# Altium footprint library PCB_control_unit.PcbLib: 48 footprints (part 2 of 3)
Each footprint in its own frame and in the unit in brackets; x right, y up, seen from the top. Pads: shape width x height; smd on the part's side, far side on the other; paste and mask are expansions set on the pad; w line width, h text height; cw(c..) or ccw(c..) is an arc to the next point about the centre after c.
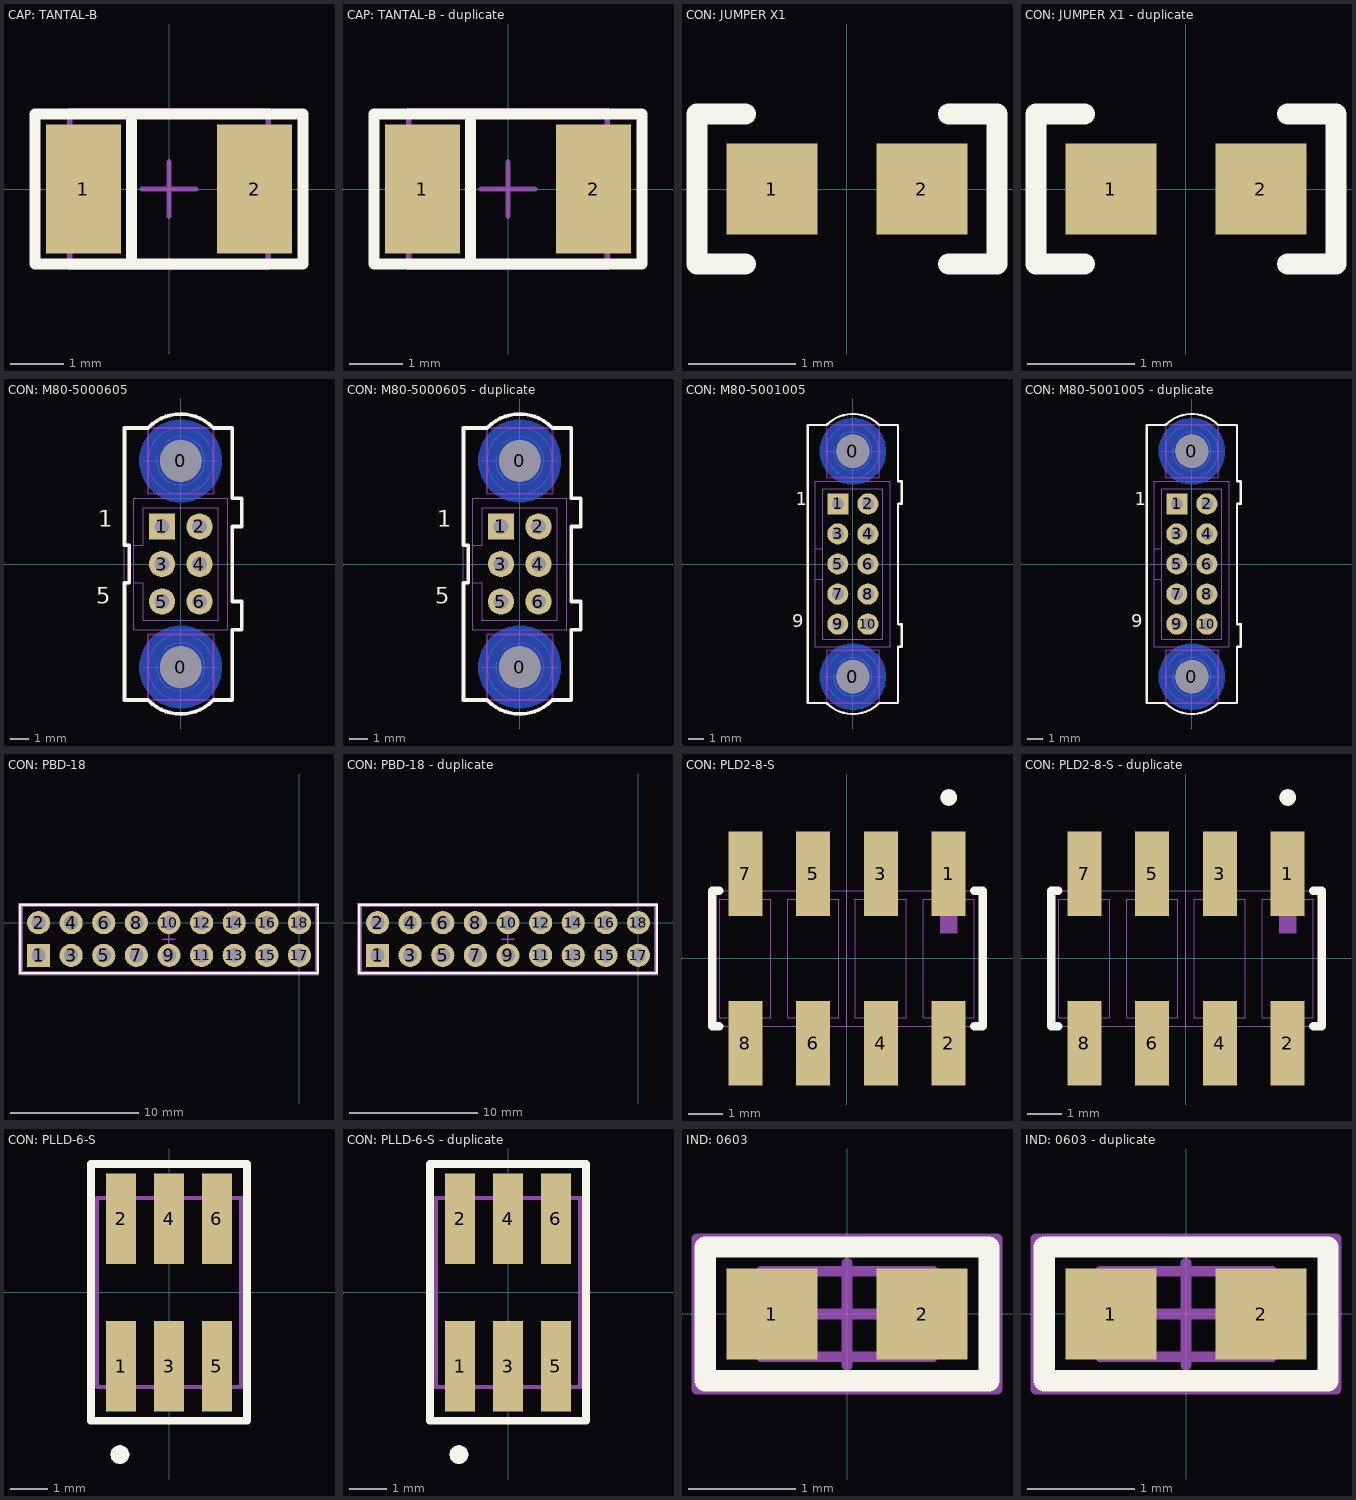
[diagram p1: the footprints below, top view; thin cyan lines are the x and y axes]

## CAP: TANTAL-B [mm]
height 1.9
pads (2):
  rect 1.4x2.4 smd: 1(-1.6,0) 2(1.6,0)
Top Overlay:
  lines w0.2: -0.7,-1.4 -0.7,1.3 ; -2.5,-1.4 2.5,-1.4 2.5,1.4 -2.5,1.4 -2.5,-1.4
Mechanical 1:
  lines w0.1: -0.7,-1.465 -0.7,1.465 ; -1.85,-1.465 1.85,-1.465 1.85,1.465 -1.85,1.465 -1.85,-1.465
Mechanical 15:
  lines w0.1: -0.5,0 0.5,0 ; 0,-0.5 0,0.5 ; -2.5,-1.4 -2.5,1.4 2.5,1.4 2.5,-1.4 -2.5,-1.4
3D body "User Library-AVX_BCASE.STEP": height 2.03, standoff 0, extent -1.85,-1.465 1.85,1.465

## CAP: TANTAL-B - duplicate [mm]
pads (2):
  rect 1.4x2.4 smd: 1(-1.6,0) 2(1.6,0)
Top Overlay:
  lines w0.2: -0.7,-1.4 -0.7,1.3 ; -2.5,-1.4 2.5,-1.4 2.5,1.4 -2.5,1.4 -2.5,-1.4
Mechanical 1:
  lines w0.1: -0.7,-1.465 -0.7,1.465 ; -1.85,-1.465 1.85,-1.465 1.85,1.465 -1.85,1.465 -1.85,-1.465
Mechanical 15:
  lines w0.1: -0.5,0 0.5,0 ; 0,-0.5 0,0.5 ; -2.5,-1.4 -2.5,1.4 2.5,1.4 2.5,-1.4 -2.5,-1.4
3D body "User Library-AVX_BCASE.STEP": height 2.03, standoff 0, extent -1.85,-1.465 1.85,1.465

## CON: JUMPER X1 [mm]
pads (2):
  rect 0.85x0.85 smd: 1(-0.7,0) 2(0.7,0)
Top Overlay:
  lines w0.2: -0.95,-0.7 -1.4,-0.7 -1.4,0.7 -0.95,0.7 ; 0.95,-0.7 1.4,-0.7 1.4,0.7 0.95,0.7

## CON: JUMPER X1 - duplicate [mm]
pads (2):
  rect 0.85x0.85 smd: 1(-0.7,0) 2(0.7,0)
Top Overlay:
  lines w0.2: -0.95,-0.7 -1.4,-0.7 -1.4,0.7 -0.95,0.7 ; 0.95,-0.7 1.4,-0.7 1.4,0.7 0.95,0.7

## CON: M80-5000605 [mm] "HR500"
height 5.6
pads (8):
  round 2.2 hole 2.2 unplated mask+0.1: 0(0,-5.5) 0(0,5.5)
  rect 1.4x1.4 hole 0.8: 1(-1,2)
  round 1.4 hole 0.8: 2(1,2) 3(-1,0) 4(1,0) 5(-1,-2) 6(1,-2)
Top Layer keep-out:
  lines w0.1: -1.75,-7.25 1.75,-7.25 1.75,-3.75 -1.75,-3.75 -1.75,-7.25 ; -1.75,3.75 1.75,3.75 1.75,7.25 -1.75,7.25 -1.75,3.75
Bottom Layer:
  pour cut-out: 2.2,5.5 2.2,5.717 2.115,6.142 1.95,6.542 1.709,6.902 1.402,7.209 1.042,7.45 0.642,7.615 0.217,7.7 -0.217,7.7 -0.642,7.615 -1.042,7.45 -1.402,7.209 -1.709,6.902 -1.95,6.542 -2.115,6.142 -2.2,5.717 -2.2,5.5 -2.2,5.283 -2.115,4.858 -1.95,4.458 -1.709,4.098 -1.402,3.791 -1.042,3.55 -0.642,3.385 -0.217,3.3 0.217,3.3 0.642,3.385 1.042,3.55 1.402,3.791 1.709,4.098 1.95,4.458 2.115,4.858 2.2,5.283
  pour cut-out: 2.2,-5.5 2.2,-5.283 2.115,-4.858 1.95,-4.458 1.709,-4.098 1.402,-3.791 1.042,-3.55 0.642,-3.385 0.217,-3.3 -0.217,-3.3 -0.642,-3.385 -1.042,-3.55 -1.402,-3.791 -1.709,-4.098 -1.95,-4.458 -2.115,-4.858 -2.2,-5.283 -2.2,-5.5 -2.2,-5.717 -2.115,-6.142 -1.95,-6.542 -1.709,-6.902 -1.402,-7.209 -1.042,-7.45 -0.642,-7.615 -0.217,-7.7 0.217,-7.7 0.642,-7.615 1.042,-7.45 1.402,-7.209 1.709,-6.902 1.95,-6.542 2.115,-6.142 2.2,-5.717
Top Overlay:
  lines w0.2: -3,-7.25 -1.75,-7.25 -1.707,-7.293 ccw(c0,-5.586) 0,-8 ccw(c0,-5.586) 1.707,-7.293 1.75,-7.25 2.75,-7.25 2.75,-3.5 3.25,-3.5 3.25,-2 2.75,-2 2.75,2 3.25,2 3.25,3.5 2.75,3.5 2.75,7.25 1.75,7.25 1.707,7.293 ccw(c0,5.586) 0,8 ccw(c0,5.586) -1.707,7.293 -1.75,7.25 -3,7.25 -3,1 -2.75,1 -2.75,-1 -3,-1 -3,-7.25
  text "1" at -4.4,1.7 h1.5
  text "5" at -4.5,-2.4 h1.5
Mechanical 1:
  circle w0.05: c0,5.5 r1.75
  circle w0.05: c0,-5.5 r1.75
  circle w0.05: c0,5.5 r1.1
  circle w0.05: c0,-5.5 r1.1
  circle w0.05: c-1,0 r0.25
  circle w0.05: c-1,-2 r0.25
  circle w0.05: c1,-2 r0.25
  circle w0.05: c1,0 r0.25
  circle w0.05: c1,2 r0.25
  circle w0.05: c-1,2 r0.25
  lines w0.05: -2.5,-1 -2,-1 -2,-3 2,-3 2,3 -2,3 -2,1 -2.5,1 ; -2,-5.5 2,-5.5 ; -2,5.5 2,5.5 ; -1.25,-5.248 ccw(c0,-5.5) -0.901,-4.599 ; -1.25,5.752 ccw(c0,5.5) -0.901,6.401 ; 0,-7.5 0,-3.65 ; 0,3.6 0,7.5 ; -3,-7.25 -3,7.25 -1.75,7.25 cw(c0,5.5) 1.75,7.25 2.75,7.25 2.75,3.5 3.25,3.5 3.25,2 2.75,2 2.75,-2 3.25,-2 3.25,-3.5 2.75,-3.5 2.75,-7.25 1.75,-7.25 cw(c0,-5.5) -1.75,-7.25 -3,-7.25 ; -2.5,-3.5 2.5,-3.5 2.5,3.5 -2.5,3.5 -2.5,-3.5
3D body "Вилка M80-5000642.stp": height 5.6, standoff -3.25, extent -2.775,-8 3.275,8

## CON: M80-5000605 - duplicate [mm]
pads (8):
  round 2.2 hole 2.2 unplated mask+0.1: 0(0,-5.5) 0(0,5.5)
  rect 1.4x1.4 hole 0.8: 1(-1,2)
  round 1.4 hole 0.8: 2(1,2) 3(-1,0) 4(1,0) 5(-1,-2) 6(1,-2)
Top Layer keep-out:
  lines w0.1: -1.75,-7.25 1.75,-7.25 1.75,-3.75 -1.75,-3.75 -1.75,-7.25 ; -1.75,3.75 1.75,3.75 1.75,7.25 -1.75,7.25 -1.75,3.75
Bottom Layer:
  pour cut-out: 2.2,5.5 2.2,5.717 2.115,6.142 1.95,6.542 1.709,6.902 1.402,7.209 1.042,7.45 0.642,7.615 0.217,7.7 -0.217,7.7 -0.642,7.615 -1.042,7.45 -1.402,7.209 -1.709,6.902 -1.95,6.542 -2.115,6.142 -2.2,5.717 -2.2,5.5 -2.2,5.283 -2.115,4.858 -1.95,4.458 -1.709,4.098 -1.402,3.791 -1.042,3.55 -0.642,3.385 -0.217,3.3 0.217,3.3 0.642,3.385 1.042,3.55 1.402,3.791 1.709,4.098 1.95,4.458 2.115,4.858 2.2,5.283
  pour cut-out: 2.2,-5.5 2.2,-5.283 2.115,-4.858 1.95,-4.458 1.709,-4.098 1.402,-3.791 1.042,-3.55 0.642,-3.385 0.217,-3.3 -0.217,-3.3 -0.642,-3.385 -1.042,-3.55 -1.402,-3.791 -1.709,-4.098 -1.95,-4.458 -2.115,-4.858 -2.2,-5.283 -2.2,-5.5 -2.2,-5.717 -2.115,-6.142 -1.95,-6.542 -1.709,-6.902 -1.402,-7.209 -1.042,-7.45 -0.642,-7.615 -0.217,-7.7 0.217,-7.7 0.642,-7.615 1.042,-7.45 1.402,-7.209 1.709,-6.902 1.95,-6.542 2.115,-6.142 2.2,-5.717
Top Overlay:
  lines w0.2: -3,-7.25 -1.75,-7.25 -1.707,-7.293 ccw(c0,-5.586) 0,-8 ccw(c0,-5.586) 1.707,-7.293 1.75,-7.25 2.75,-7.25 2.75,-3.5 3.25,-3.5 3.25,-2 2.75,-2 2.75,2 3.25,2 3.25,3.5 2.75,3.5 2.75,7.25 1.75,7.25 1.707,7.293 ccw(c0,5.586) 0,8 ccw(c0,5.586) -1.707,7.293 -1.75,7.25 -3,7.25 -3,1 -2.75,1 -2.75,-1 -3,-1 -3,-7.25
  text "1" at -4.4,1.7 h1.5
  text "5" at -4.5,-2.4 h1.5
Mechanical 1:
  circle w0.05: c0,5.5 r1.75
  circle w0.05: c0,-5.5 r1.75
  circle w0.05: c0,5.5 r1.1
  circle w0.05: c0,-5.5 r1.1
  circle w0.05: c-1,0 r0.25
  circle w0.05: c-1,-2 r0.25
  circle w0.05: c1,-2 r0.25
  circle w0.05: c1,0 r0.25
  circle w0.05: c1,2 r0.25
  circle w0.05: c-1,2 r0.25
  lines w0.05: -2.5,-1 -2,-1 -2,-3 2,-3 2,3 -2,3 -2,1 -2.5,1 ; -2,-5.5 2,-5.5 ; -2,5.5 2,5.5 ; -1.25,-5.248 ccw(c0,-5.5) -0.901,-4.599 ; -1.25,5.752 ccw(c0,5.5) -0.901,6.401 ; 0,-7.5 0,-3.65 ; 0,3.6 0,7.5 ; -3,-7.25 -3,7.25 -1.75,7.25 cw(c0,5.5) 1.75,7.25 2.75,7.25 2.75,3.5 3.25,3.5 3.25,2 2.75,2 2.75,-2 3.25,-2 3.25,-3.5 2.75,-3.5 2.75,-7.25 1.75,-7.25 cw(c0,-5.5) -1.75,-7.25 -3,-7.25 ; -2.5,-3.5 2.5,-3.5 2.5,3.5 -2.5,3.5 -2.5,-3.5
3D body "Вилка M80-5000642.stp": height 5.6, standoff -3.25, extent -2.775,-8 3.275,8

## CON: M80-5001005 [mm] "10 pin"
height 5.6
pads (12):
  round 2.2 hole 2.2 unplated: 0(0,-7.5) 0(0,7.5)
  rect 1.4x1.4 hole 0.8: 1(-1,4)
  round 1.4 hole 0.8: 2(1,4) 3(-1,2) 4(1,2) 5(-1,0) 6(1,0) 7(-1,-2) 8(1,-2) 9(-1,-4) 10(1,-4)
Top Layer keep-out:
  lines w0.1: -1.75,-9.25 -1.75,-5.75 1.75,-5.75 1.75,-9.25 -1.75,-9.25 ; -1.75,5.75 1.75,5.75 1.75,9.25 -1.75,9.25 -1.75,5.75
Bottom Layer:
  pour cut-out: 2.2,7.5 2.2,7.717 2.115,8.142 1.95,8.542 1.709,8.902 1.402,9.209 1.042,9.45 0.642,9.615 0.217,9.7 -0.217,9.7 -0.642,9.615 -1.042,9.45 -1.402,9.209 -1.709,8.902 -1.95,8.542 -2.115,8.142 -2.2,7.717 -2.2,7.5 -2.2,7.283 -2.115,6.858 -1.95,6.458 -1.709,6.098 -1.402,5.791 -1.042,5.55 -0.642,5.385 -0.217,5.3 0.217,5.3 0.642,5.385 1.042,5.55 1.402,5.791 1.709,6.098 1.95,6.458 2.115,6.858 2.2,7.283
  pour cut-out: 2.2,-7.5 2.2,-7.283 2.115,-6.858 1.95,-6.458 1.709,-6.098 1.402,-5.791 1.042,-5.55 0.642,-5.385 0.217,-5.3 -0.217,-5.3 -0.642,-5.385 -1.042,-5.55 -1.402,-5.791 -1.709,-6.098 -1.95,-6.458 -2.115,-6.858 -2.2,-7.283 -2.2,-7.5 -2.2,-7.717 -2.115,-8.142 -1.95,-8.542 -1.709,-8.902 -1.402,-9.209 -1.042,-9.45 -0.642,-9.615 -0.217,-9.7 0.217,-9.7 0.642,-9.615 1.042,-9.45 1.402,-9.209 1.709,-8.902 1.95,-8.542 2.115,-8.142 2.2,-7.717
Top Overlay:
  lines w0.15: -3,-9.25 -1.75,-9.25 ccw(c0,-7.5) 1.75,-9.25 3,-9.25 3,-5.5 3.25,-5.5 3.25,-4 3,-4 3,4 3.25,4 3.25,5.5 3,5.5 3,9.25 1.75,9.25 ccw(c0,7.5) -1.75,9.25 -3,9.25 -3,-9.25
  text "1" at -3.8,3.6 h1.5
  text "9" at -4.027,-4.5 h1.5
Mechanical 1:
  circle w0.05: c-1,4 r0.25
  circle w0.05: c1,4 r0.25
  circle w0.05: c1,2 r0.25
  circle w0.05: c1,0 r0.25
  circle w0.05: c1,-2 r0.25
  circle w0.05: c1,-4 r0.25
  circle w0.05: c-1,-4 r0.25
  circle w0.05: c-1,-2 r0.25
  circle w0.05: c-1,0 r0.25
  circle w0.05: c-1,2 r0.25
  circle w0.05: c0,7.5 r1
  circle w0.05: c0,7.5 r1.75
  circle w0.05: c0,-7.5 r1
  circle w0.05: c0,-7.5 r1.75
  lines w0.05: -2,-7.5 2,-7.5 ; -2,7.5 2,7.5 ; -1.5,-7.5 1.5,-7.5 ; -1.25,-7.248 ccw(c0,-7.5) -0.901,-6.599 ; -1.25,7.752 ccw(c0,7.5) -0.901,8.401 ; 0,-9.5 0,-5.65 ; 0,5.6 0,9.5 ; -2.5,-1 -2.5,5.5 2.5,5.5 2.5,-2 2.5,-5.5 0,-5.5 -2.5,-5.5 -2.5,-1 ; -2.5,-1 -2.5,1 -2,1 ; -2.5,-1 -2,-1 ; -2,-1 -2,5 2,5 2,-2 2,-5 -2,-5 -2,1 ; -2,-1 -2,1 ; 3.25,-5.5 3,-5.5 3,-9.25 1.75,-9.25 cw(c0,-7.5) -1.75,-9.25 -3,-9.25 -3,-2 -3,9.25 -1.75,9.25 cw(c0,7.5) 1.75,9.25 3,9.25 3,5.5 3.25,5.5 3.25,4 3,4 3,-2 3,-4 3.25,-4 ; 3.25,-5.5 3.25,-4 ; 3.25,-5.5 3.25,-4
3D body "m80-5001005_asm.stp": height 5.6, standoff -3.25, extent -2.775,-10 3.275,10

## CON: M80-5001005 - duplicate [mm]
pads (12):
  round 2.2 hole 2.2 unplated: 0(0,-7.5) 0(0,7.5)
  rect 1.4x1.4 hole 0.8: 1(-1,4)
  round 1.4 hole 0.8: 2(1,4) 3(-1,2) 4(1,2) 5(-1,0) 6(1,0) 7(-1,-2) 8(1,-2) 9(-1,-4) 10(1,-4)
Top Layer keep-out:
  lines w0.1: -1.75,-9.25 -1.75,-5.75 1.75,-5.75 1.75,-9.25 -1.75,-9.25 ; -1.75,5.75 1.75,5.75 1.75,9.25 -1.75,9.25 -1.75,5.75
Bottom Layer:
  pour cut-out: 2.2,7.5 2.2,7.717 2.115,8.142 1.95,8.542 1.709,8.902 1.402,9.209 1.042,9.45 0.642,9.615 0.217,9.7 -0.217,9.7 -0.642,9.615 -1.042,9.45 -1.402,9.209 -1.709,8.902 -1.95,8.542 -2.115,8.142 -2.2,7.717 -2.2,7.5 -2.2,7.283 -2.115,6.858 -1.95,6.458 -1.709,6.098 -1.402,5.791 -1.042,5.55 -0.642,5.385 -0.217,5.3 0.217,5.3 0.642,5.385 1.042,5.55 1.402,5.791 1.709,6.098 1.95,6.458 2.115,6.858 2.2,7.283
  pour cut-out: 2.2,-7.5 2.2,-7.283 2.115,-6.858 1.95,-6.458 1.709,-6.098 1.402,-5.791 1.042,-5.55 0.642,-5.385 0.217,-5.3 -0.217,-5.3 -0.642,-5.385 -1.042,-5.55 -1.402,-5.791 -1.709,-6.098 -1.95,-6.458 -2.115,-6.858 -2.2,-7.283 -2.2,-7.5 -2.2,-7.717 -2.115,-8.142 -1.95,-8.542 -1.709,-8.902 -1.402,-9.209 -1.042,-9.45 -0.642,-9.615 -0.217,-9.7 0.217,-9.7 0.642,-9.615 1.042,-9.45 1.402,-9.209 1.709,-8.902 1.95,-8.542 2.115,-8.142 2.2,-7.717
Top Overlay:
  lines w0.15: -3,-9.25 -1.75,-9.25 ccw(c0,-7.5) 1.75,-9.25 3,-9.25 3,-5.5 3.25,-5.5 3.25,-4 3,-4 3,4 3.25,4 3.25,5.5 3,5.5 3,9.25 1.75,9.25 ccw(c0,7.5) -1.75,9.25 -3,9.25 -3,-9.25
  text "1" at -3.8,3.6 h1.5
  text "9" at -4.027,-4.5 h1.5
Mechanical 1:
  circle w0.05: c-1,4 r0.25
  circle w0.05: c1,4 r0.25
  circle w0.05: c1,2 r0.25
  circle w0.05: c1,0 r0.25
  circle w0.05: c1,-2 r0.25
  circle w0.05: c1,-4 r0.25
  circle w0.05: c-1,-4 r0.25
  circle w0.05: c-1,-2 r0.25
  circle w0.05: c-1,0 r0.25
  circle w0.05: c-1,2 r0.25
  circle w0.05: c0,7.5 r1
  circle w0.05: c0,7.5 r1.75
  circle w0.05: c0,-7.5 r1
  circle w0.05: c0,-7.5 r1.75
  lines w0.05: -2,-7.5 2,-7.5 ; -2,7.5 2,7.5 ; -1.5,-7.5 1.5,-7.5 ; -1.25,-7.248 ccw(c0,-7.5) -0.901,-6.599 ; -1.25,7.752 ccw(c0,7.5) -0.901,8.401 ; 0,-9.5 0,-5.65 ; 0,5.6 0,9.5 ; -2.5,-1 -2.5,5.5 2.5,5.5 2.5,-2 2.5,-5.5 0,-5.5 -2.5,-5.5 -2.5,-1 ; -2.5,-1 -2.5,1 -2,1 ; -2.5,-1 -2,-1 ; -2,-1 -2,5 2,5 2,-2 2,-5 -2,-5 -2,1 ; -2,-1 -2,1 ; 3.25,-5.5 3,-5.5 3,-9.25 1.75,-9.25 cw(c0,-7.5) -1.75,-9.25 -3,-9.25 -3,-2 -3,9.25 -1.75,9.25 cw(c0,7.5) 1.75,9.25 3,9.25 3,5.5 3.25,5.5 3.25,4 3,4 3,-2 3,-4 3.25,-4 ; 3.25,-5.5 3.25,-4 ; 3.25,-5.5 3.25,-4
3D body "m80-5001005_asm.stp": height 5.6, standoff -3.25, extent -2.775,-10 3.275,10

## CON: PBD-18 [mm] "PBD-18"
height 10
pads (18):
  rect 1.8x1.8 hole 1.1: 1(-20.32,-2.54)
  round 1.8 hole 1.1: 2(-20.32,0) 3(-17.78,-2.54) 4(-17.78,0) 5(-15.24,-2.54) 6(-15.24,0) 7(-12.7,-2.54) 8(-12.7,0) 9(-10.16,-2.54) 10(-10.16,0) 11(-7.62,-2.54) 12(-7.62,0) 13(-5.08,-2.54) 14(-5.08,0) 15(-2.54,-2.54) 16(-2.54,0) 17(0,-2.54) 18(0,0)
Top Overlay:
  lines w0.2: -21.735,-3.945 1.415,-3.945 1.415,1.405 -21.735,1.405 -21.735,-3.945
Mechanical 1:
  lines w0.1: -21.59,-3.81 1.27,-3.81 1.27,1.27 -21.59,1.27 -21.59,-3.81
Mechanical 15:
  lines w0.05: -21.844,-4.064 -21.844,1.524 1.524,1.524 1.524,-4.064 -21.844,-4.064
  lines w0.1: -10.66,-1.27 -9.66,-1.27 ; -10.16,-1.77 -10.16,-0.77
3D body "PBD-18.STEP": height 8.5, standoff -3, extent -21.59,-3.81 1.27,1.27

## CON: PBD-18 - duplicate [mm]
pads (18):
  rect 1.8x1.8 hole 1.1: 1(-20.32,-2.54)
  round 1.8 hole 1.1: 2(-20.32,0) 3(-17.78,-2.54) 4(-17.78,0) 5(-15.24,-2.54) 6(-15.24,0) 7(-12.7,-2.54) 8(-12.7,0) 9(-10.16,-2.54) 10(-10.16,0) 11(-7.62,-2.54) 12(-7.62,0) 13(-5.08,-2.54) 14(-5.08,0) 15(-2.54,-2.54) 16(-2.54,0) 17(0,-2.54) 18(0,0)
Top Overlay:
  lines w0.2: -21.735,-3.945 1.415,-3.945 1.415,1.405 -21.735,1.405 -21.735,-3.945
Mechanical 1:
  lines w0.1: -21.59,-3.81 1.27,-3.81 1.27,1.27 -21.59,1.27 -21.59,-3.81
Mechanical 15:
  lines w0.05: -21.844,-4.064 -21.844,1.524 1.524,1.524 1.524,-4.064 -21.844,-4.064
  lines w0.1: -10.66,-1.27 -9.66,-1.27 ; -10.16,-1.77 -10.16,-0.77
3D body "PBD-18.STEP": height 8.5, standoff -3, extent -21.59,-3.81 1.27,1.27

## CON: PLD2-8-S [mm] "двухрядные штыри, шаг 2мм; SMD"
height 10
pads (9):
  rect 1x2.5 smd mask+0.1: 1(3,2.5) 2(3,-2.5) 3(1,2.5) 4(1,-2.5)
  rect 1x2.5 smd: 5(-1,2.5) 6(-1,-2.5) 7(-3,2.5) 8(-3,-2.5)
  round 0.5 on Top Overlay: ""(3,4.75)
Top Overlay:
  lines w0.254: -3.775,-2 -3.975,-2 -3.975,2 -3.775,2 ; 3.75,-2 4,-2 4,2 3.75,2
Top Solder:
  region: 1.6,-1.15 0.4,-1.15 0.4,-3.85 1.6,-3.85
  region: 1.6,3.85 0.4,3.85 0.4,1.15 1.6,1.15
  region: 3.6,-1.15 2.4,-1.15 2.4,-3.85 3.6,-3.85
  region: 3.6,3.85 2.4,3.85 2.4,1.15 3.6,1.15
Mechanical 1:
  region: 3.25,1.5 2.75,1.5 2.75,0.75 3.25,0.75
  lines w0.01: -4,-2 0,-2 0,2 -4,2 ; -4,-2 -4,2 ; -4,-2 4,-2 4,2 -4,2 ; -4,-2 -4,2 ; -3.75,-1.75 -2.25,-1.75 -2.25,1.75 -3.75,1.75 -3.75,-1.75 ; -1.75,-1.75 -0.25,-1.75 -0.25,1.75 -1.75,1.75 -1.75,-1.75 ; 0.25,-1.75 1.75,-1.75 1.75,1.75 0.25,1.75 0.25,-1.75 ; 2.25,-1.75 3.75,-1.75 3.75,1.75 2.25,1.75 2.25,-1.75
  lines w0.025: -3.25,-2 -3.25,-3.25 -2.75,-3.25 -2.75,-2 ; -3.25,2 -3.25,3.25 -2.75,3.25 -2.75,2 ; -1.25,-2 -1.25,-3.25 -0.75,-3.25 -0.75,-2 ; -1.25,2 -1.25,3.25 -0.75,3.25 -0.75,2 ; 0.75,-2 0.75,-3.25 1.25,-3.25 1.25,-2 ; 0.75,2 0.75,3.25 1.25,3.25 1.25,2 ; 2.75,-2 2.75,-3.25 3.25,-3.25 3.25,-2 ; 2.75,2 2.75,3.25 3.25,3.25 3.25,2
3D body "PinHeader_2x04_P2.00mm_Vertical_SMD.step": height 6, standoff 0, extent -4,-3.1 4,3.1

## CON: PLD2-8-S - duplicate [mm]
pads (9):
  rect 1x2.5 smd mask+0.1: 1(3,2.5) 2(3,-2.5) 3(1,2.5) 4(1,-2.5)
  rect 1x2.5 smd: 5(-1,2.5) 6(-1,-2.5) 7(-3,2.5) 8(-3,-2.5)
  round 0.5 on Top Overlay: ""(3,4.75)
Top Overlay:
  lines w0.254: -3.775,-2 -3.975,-2 -3.975,2 -3.775,2 ; 3.75,-2 4,-2 4,2 3.75,2
Top Solder:
  region: 1.6,-1.15 0.4,-1.15 0.4,-3.85 1.6,-3.85
  region: 1.6,3.85 0.4,3.85 0.4,1.15 1.6,1.15
  region: 3.6,-1.15 2.4,-1.15 2.4,-3.85 3.6,-3.85
  region: 3.6,3.85 2.4,3.85 2.4,1.15 3.6,1.15
Mechanical 1:
  region: 3.25,1.5 2.75,1.5 2.75,0.75 3.25,0.75
  lines w0.01: -4,-2 0,-2 0,2 -4,2 ; -4,-2 -4,2 ; -4,-2 4,-2 4,2 -4,2 ; -4,-2 -4,2 ; -3.75,-1.75 -2.25,-1.75 -2.25,1.75 -3.75,1.75 -3.75,-1.75 ; -1.75,-1.75 -0.25,-1.75 -0.25,1.75 -1.75,1.75 -1.75,-1.75 ; 0.25,-1.75 1.75,-1.75 1.75,1.75 0.25,1.75 0.25,-1.75 ; 2.25,-1.75 3.75,-1.75 3.75,1.75 2.25,1.75 2.25,-1.75
  lines w0.025: -3.25,-2 -3.25,-3.25 -2.75,-3.25 -2.75,-2 ; -3.25,2 -3.25,3.25 -2.75,3.25 -2.75,2 ; -1.25,-2 -1.25,-3.25 -0.75,-3.25 -0.75,-2 ; -1.25,2 -1.25,3.25 -0.75,3.25 -0.75,2 ; 0.75,-2 0.75,-3.25 1.25,-3.25 1.25,-2 ; 0.75,2 0.75,3.25 1.25,3.25 1.25,2 ; 2.75,-2 2.75,-3.25 3.25,-3.25 3.25,-2 ; 2.75,2 2.75,3.25 3.25,3.25 3.25,2
3D body "PinHeader_2x04_P2.00mm_Vertical_SMD.step": height 6, standoff 0, extent -4,-3.1 4,3.1

## CON: PLLD-6-S [mm] "smd 6 pin"
height 4.5
pads (8):
  rect 0.8x2.4 smd: 1(-1.27,-1.95) 2(-1.27,1.95) 3(0,-1.95) 4(0,1.95) 5(1.27,-1.95) 6(1.27,1.95)
  round 0.5 on Mech1: ""(-1.3,-4.292)
  round 0.5 on Top Overlay: ""(-1.3,-4.292)
Top Overlay:
  lines w0.2: -2.065,-3.4 2.065,-3.4 2.065,3.4 -2.065,3.4 -2.065,-3.4
Mechanical 1:
  lines w0.1: -1.905,-2.5 1.905,-2.5 1.905,2.5 -1.905,2.5 -1.905,-2.5
Mechanical 15:
  lines w0.1: -2.065,-3.4 -2.065,3.4 2.065,3.4 2.065,-3.4 -2.065,-3.4
3D body "PinHeader_2x03_P1.27mm_Vertical_SMD.step": height 4.4, standoff 0, extent -1.905,-2.772 1.905,2.798

## CON: PLLD-6-S - duplicate [mm]
pads (8):
  rect 0.8x2.4 smd: 1(-1.27,-1.95) 2(-1.27,1.95) 3(0,-1.95) 4(0,1.95) 5(1.27,-1.95) 6(1.27,1.95)
  round 0.5 on Mech1: ""(-1.3,-4.292)
  round 0.5 on Top Overlay: ""(-1.3,-4.292)
Top Overlay:
  lines w0.2: -2.065,-3.4 2.065,-3.4 2.065,3.4 -2.065,3.4 -2.065,-3.4
Mechanical 1:
  lines w0.1: -1.905,-2.5 1.905,-2.5 1.905,2.5 -1.905,2.5 -1.905,-2.5
Mechanical 15:
  lines w0.1: -2.065,-3.4 -2.065,3.4 2.065,3.4 2.065,-3.4 -2.065,-3.4
3D body "PinHeader_2x03_P1.27mm_Vertical_SMD.step": height 4.4, standoff 0, extent -1.905,-2.772 1.905,2.798

## IND: 0603 [mm]
height 0.8
pads (2):
  rect 0.85x0.85 smd: 1(-0.7,0) 2(0.7,0)
Top Overlay:
  lines w0.2: -1.325,-0.625 1.325,-0.625 1.325,0.625 -1.325,0.625 -1.325,-0.625
Mechanical 1:
  lines w0.1: -0.8,-0.4 0.8,-0.4 0.8,0.4 -0.8,0.4 -0.8,-0.4
Mechanical 15:
  lines w0.1: -0.475,0 0.475,0 ; 0,-0.475 0,0.475 ; -1.4,-0.7 -1.4,0.7 1.4,0.7 1.4,-0.7 -1.4,-0.7
3D body "Chip2PinSM127P600-8N.step": height 0.8, standoff 0, extent -0.8,-0.4 0.8,0.4

## IND: 0603 - duplicate [mm]
pads (2):
  rect 0.85x0.85 smd: 1(-0.7,0) 2(0.7,0)
Top Overlay:
  lines w0.2: -1.325,-0.625 1.325,-0.625 1.325,0.625 -1.325,0.625 -1.325,-0.625
Mechanical 1:
  lines w0.1: -0.8,-0.4 0.8,-0.4 0.8,0.4 -0.8,0.4 -0.8,-0.4
Mechanical 15:
  lines w0.1: -0.475,0 0.475,0 ; 0,-0.475 0,0.475 ; -1.4,-0.7 -1.4,0.7 1.4,0.7 1.4,-0.7 -1.4,-0.7
3D body "Chip2PinSM127P600-8N.step": height 0.8, standoff 0, extent -0.8,-0.4 0.8,0.4